# Altium schematic symbol library AFE.SchLib: 1 symbol
Pins are listed as number, name and electrical type; pins without a type are passive.

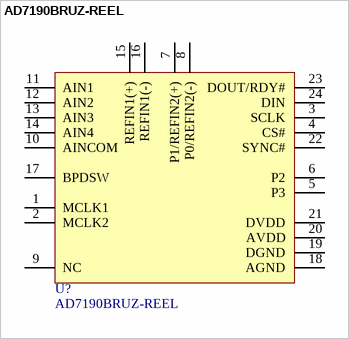
[diagram p0: symbol AD7190BRUZ-REEL]

## AD7190BRUZ-REEL
designator U?
pins: 1 MCLK1, 2 MCLK2, 3 SCLK, 4 CS#, 5 P3, 6 P2, 7 P1/REFIN2(+), 8 P0/REFIN2(-), 9 NC, 10 AINCOM, 11 AIN1, 12 AIN2, 13 AIN3, 14 AIN4, 15 REFIN1(+), 16 REFIN1(-), 17 BPDSW, 18 AGND, 19 DGND, 20 AVDD, 21 DVDD, 22 SYNC#, 23 DOUT/RDY#, 24 DIN